# Altium footprint library MZ7XBFUN20171130.PcbLib: 50 footprints (part 2 of 4)
Each footprint in its own frame and in the unit in brackets; x right, y up, seen from the top. Pads: shape width x height; smd on the part's side, far side on the other; paste and mask are expansions set on the pad; w line width, h text height; cw(c..) or ccw(c..) is an arc to the next point about the centre after c.
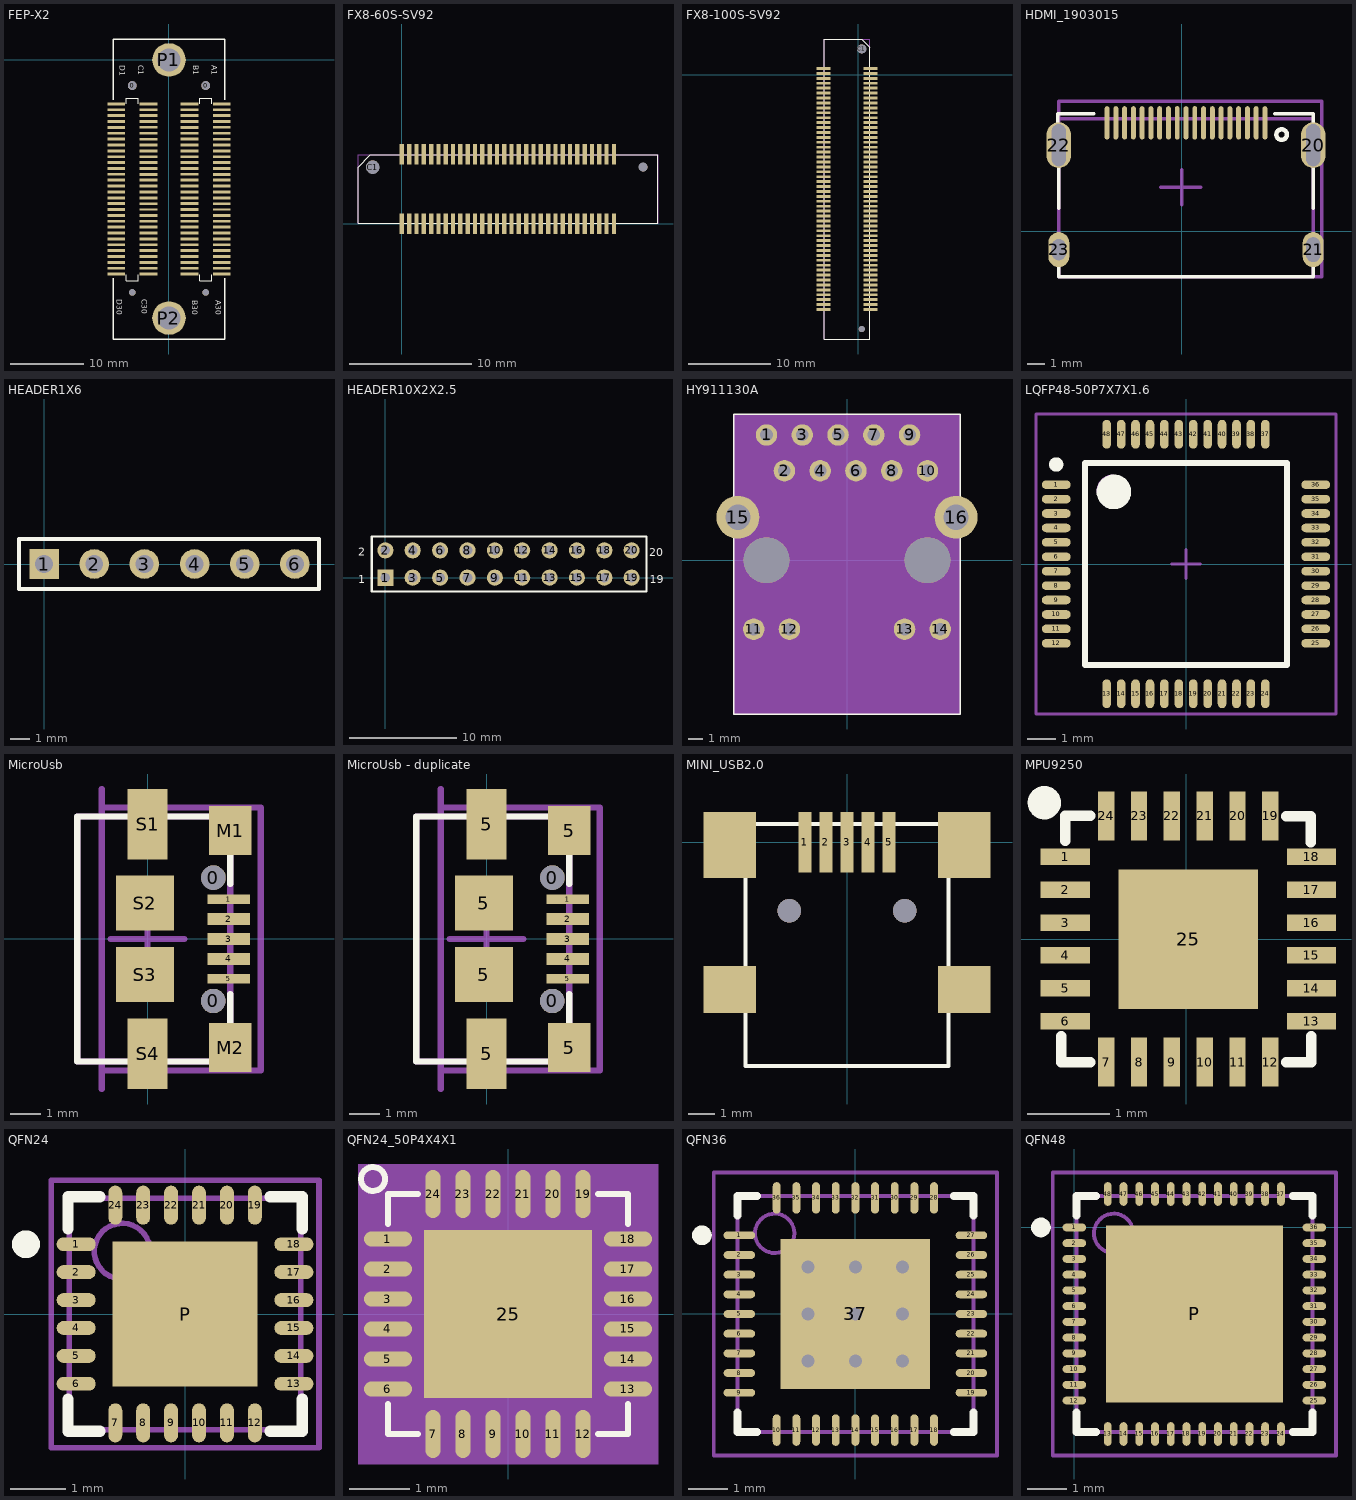
[diagram p1: the footprints below, top view; thin cyan lines are the x and y axes]

## FEP-X2 [mm]
pads (126):
  round 0.889 hole 0.889: 0(-5,-31.7) 0(5,-31.7)
  round 1.2 hole 1.2: 0(-5,-3.5) 0(5,-3.5)
  rect 2.4x0.4 smd: A1(7.2,-6) A2(7.2,-6.8) A3(7.2,-7.6) A4(7.2,-8.4) A8(7.2,-11.6) A9(7.2,-12.4) A10(7.2,-13.2) A11(7.2,-14) A12(7.2,-14.8) A13(7.2,-15.6) A14(7.2,-16.4) A15(7.2,-17.2) A16(7.2,-18) A17(7.2,-18.8) A20(7.2,-21.2) A21(7.2,-22) A22(7.2,-22.8) A23(7.2,-23.6) A24(7.2,-24.4) A25(7.2,-25.2) A26(7.2,-26) A27(7.2,-26.8) A28(7.2,-27.6) A29(7.2,-28.4) A30(7.2,-29.2) B1(2.8,-6) B2(2.8,-6.8) B3(2.8,-7.6) B4(2.8,-8.4) B5(2.8,-9.2) B6(2.8,-10) B7(2.8,-10.8) B8(2.8,-11.6) B9(2.8,-12.4) B10(2.8,-13.2) B11(2.8,-14) B12(2.8,-14.8) B14(2.8,-16.4) B15(2.8,-17.2) B16(2.8,-18) B17(2.8,-18.8) B18(2.8,-19.6) B19(2.8,-20.4) B20(2.8,-21.2) B21(2.8,-22) B22(2.8,-22.8) B23(2.8,-23.6) B24(2.8,-24.4) B25(2.8,-25.2) B26(2.8,-26) B27(2.8,-26.8) B28(2.8,-27.6) B29(2.8,-28.4) B30(2.8,-29.2) C1(-2.8,-6) C2(-2.8,-6.8) C3(-2.8,-7.6) C4(-2.8,-8.4) C8(-2.8,-11.6) C9(-2.8,-12.4) C10(-2.8,-13.2) C11(-2.8,-14) C12(-2.8,-14.8) C13(-2.8,-15.6) C14(-2.8,-16.4) C15(-2.8,-17.2) C16(-2.8,-18) C17(-2.8,-18.8) C20(-2.8,-21.2) C21(-2.8,-22) C22(-2.8,-22.8) C23(-2.8,-23.6) C24(-2.8,-24.4) C25(-2.8,-25.2) C26(-2.8,-26) C27(-2.8,-26.8) C28(-2.8,-27.6) C29(-2.8,-28.4) C30(-2.8,-29.2) D1(-7.2,-6) D2(-7.2,-6.8) D3(-7.2,-7.6) D4(-7.2,-8.4) D5(-7.2,-9.2) D6(-7.2,-10) D7(-7.2,-10.8) D8(-7.2,-11.6) D9(-7.2,-12.4) D10(-7.2,-13.2) D11(-7.2,-14) D12(-7.2,-14.8) D14(-7.2,-16.4) D15(-7.2,-17.2) D16(-7.2,-18) D17(-7.2,-18.8) D18(-7.2,-19.6) D19(-7.2,-20.4) D20(-7.2,-21.2) D21(-7.2,-22) D22(-7.2,-22.8) D23(-7.2,-23.6) D24(-7.2,-24.4) D25(-7.2,-25.2) D26(-7.2,-26) D27(-7.2,-26.8) D28(-7.2,-27.6) D29(-7.2,-28.4) D30(-7.2,-29.2)
  rect 2.4x0.33 smd: A5(7.2,-9.2) A6(7.2,-10) A7(7.2,-10.8) A18(7.2,-19.6) A19(7.2,-20.4) B13(2.8,-15.6) C5(-2.8,-9.2) C6(-2.8,-10) C7(-2.8,-10.8) C18(-2.8,-19.6) C19(-2.8,-20.4) D13(-7.2,-15.6)
  round 4.57 hole 3.1: P1(0,0) P2(0,-35.2)
Top Overlay:
  lines w0.152: -5.8,-29.3 -5.8,-30.1 -4.2,-30.1 ; -5.8,-6 -5.8,-5.2 -4.2,-5.2 -4.2,-6 ; 4.2,-6 4.2,-5.2 5.8,-5.2 5.8,-6 ; 5.8,-29.3 5.8,-30.1 4.2,-30.1 ; -4.2,-30.1 -4.2,-29.3 -4.2,-30.1 ; 4.2,-30.1 4.2,-29.3 4.2,-30.1
  lines w0.203: -7.62,-29.795 -7.62,-38.05 7.62,-38.05 7.62,-29.795 ; -7.62,-5.405 -7.62,2.85 7.62,2.85 7.62,-5.405
  text "B1" at 3.302,-0.762 h0.76
  text "A1" at 5.842,-0.762 h0.76
  text "B30" at 3.175,-32.766 h0.76
  text "A30" at 6.35,-32.766 h0.76
  text "D1" at -6.731,-0.762 h0.76
  text "C1" at -4.191,-0.762 h0.76
  text "D30" at -7.112,-32.639 h0.76
  text "C30" at -3.683,-32.639 h0.76

## FX8-60S-SV92 [mm]
pads (62):
  rect 0.35x1.7 smd: A1(0,0) A2(0.6,0) A3(1.2,0) A4(1.8,0) A5(2.4,0) A6(3,0) A7(3.6,0) A8(4.2,0) A9(4.8,0) A10(5.4,0) A11(6,0) A12(6.6,0) A13(7.2,0) A14(7.8,0) A15(8.4,0) A16(9,0) A17(9.6,0) A18(10.2,0) A19(10.8,0) A20(11.4,0) A21(12,0) A22(12.6,0) A23(13.2,0) A24(13.8,0) A25(14.4,0) A26(15,0) A27(15.6,0) A28(16.2,0) A29(16.8,0) A30(17.4,0) B1(0,5.7) B2(0.6,5.7) B3(1.2,5.7) B4(1.8,5.7) B5(2.4,5.7) B6(3,5.7) B7(3.6,5.7) B8(4.2,5.7) B9(4.8,5.7) B10(5.4,5.7) B11(6,5.7) B12(6.6,5.7) B13(7.2,5.7) B14(7.8,5.7) B15(8.4,5.7) B16(9,5.7) B17(9.6,5.7) B18(10.2,5.7) B19(10.8,5.7) B20(11.4,5.7) B21(12,5.7) B22(12.6,5.7) B23(13.2,5.7) B24(13.8,5.7) B25(14.4,5.7) B26(15,5.7) B27(15.6,5.7) B28(16.2,5.7) B29(16.8,5.7) B30(17.4,5.7)
  round 1.092 hole 1.1: C1(-2.4,4.65)
  round 0.711 hole 0.75: C2(19.8,4.65)
Top Overlay:
  lines w0.1: 21,0.05 -3.6,0.05 -3.6,4.65 -2.6,5.65 21,5.65 ; 21.009,0.05 21.009,5.65
Mechanical 7:
  lines w0.025: -3.6,0.05 21.016,0.05 21.016,5.65 -3.6,5.65 -3.6,0.05
3D body: height 3.81, standoff 0, extent -3.663,-0.866 21,6.634

## FX8-100S-SV92 [mm]
pads (102):
  rect 1.7x0.35 smd: A1(-4.221,0.782) A2(-4.221,0.182) A3(-4.221,-0.418) A4(-4.221,-1.018) A5(-4.221,-1.618) A6(-4.221,-2.218) A7(-4.221,-2.818) A8(-4.221,-3.418) A9(-4.221,-4.018) A10(-4.221,-4.618) A11(-4.221,-5.218) A12(-4.221,-5.818) A13(-4.221,-6.418) A14(-4.221,-7.018) A15(-4.221,-7.618) A16(-4.221,-8.218) A17(-4.221,-8.818) A18(-4.221,-9.418) A19(-4.221,-10.018) A20(-4.221,-10.618) A21(-4.221,-11.218) A22(-4.221,-11.818) A23(-4.221,-12.418) A24(-4.221,-13.018) A25(-4.221,-13.618) A26(-4.221,-14.218) A27(-4.221,-14.818) A28(-4.221,-15.418) A29(-4.221,-16.018) A30(-4.221,-16.618) A31(-4.221,-17.218) A32(-4.221,-17.818) A33(-4.221,-18.418) A34(-4.221,-19.018) A35(-4.221,-19.618) A36(-4.221,-20.218) A37(-4.221,-20.818) A38(-4.221,-21.418) A39(-4.221,-22.018) A40(-4.221,-22.618) A41(-4.221,-23.218) A42(-4.221,-23.818) A43(-4.221,-24.418) A44(-4.221,-25.018) A45(-4.221,-25.618) A46(-4.221,-26.218) A47(-4.221,-26.818) A48(-4.221,-27.418) A49(-4.221,-28.018) A50(-4.221,-28.618) B1(1.479,0.782) B2(1.479,0.182) B3(1.479,-0.418) B4(1.479,-1.018) B5(1.479,-1.618) B6(1.479,-2.218) B7(1.479,-2.818) B8(1.479,-3.418) B9(1.479,-4.018) B10(1.479,-4.618) B11(1.479,-5.218) B12(1.479,-5.818) B13(1.479,-6.418) B14(1.479,-7.018) B15(1.479,-7.618) B16(1.479,-8.218) B17(1.479,-8.818) B18(1.479,-9.418) B19(1.479,-10.018) B20(1.479,-10.618) B21(1.479,-11.218) B22(1.479,-11.818) B23(1.479,-12.418) B24(1.479,-13.018) B25(1.479,-13.618) B26(1.479,-14.218) B27(1.479,-14.818) B28(1.479,-15.418) B29(1.479,-16.018) B30(1.479,-16.618) B31(1.479,-17.218) B32(1.479,-17.818) B33(1.479,-18.418) B34(1.479,-19.018) B35(1.479,-19.618) B36(1.479,-20.218) B37(1.479,-20.818) B38(1.479,-21.418) B39(1.479,-22.018) B40(1.479,-22.618) B41(1.479,-23.218) B42(1.479,-23.818) B43(1.479,-24.418) B44(1.479,-25.018) B45(1.479,-25.618) B46(1.479,-26.218) B47(1.479,-26.818) B48(1.479,-27.418) B49(1.479,-28.018) B50(1.479,-28.618)
  round 1.092 hole 1.1: C1(0.429,3.182)
  round 0.711 hole 0.75: C2(0.429,-31.018)
Top Overlay:
  lines w0.1: -4.171,-32.218 1.429,-32.218 1.429,3.382 0.429,4.382 -4.171,4.382 -4.171,-32.218
Mechanical 6:
  text "C1" at -0.091,3.182 h0.76
Mechanical 7:
  lines w0.025: -4.171,-32.218 1.429,-32.218 1.429,4.382 -4.171,4.382 -4.171,-32.218
3D body: height 3.81, standoff 0, extent -5.121,-32.318 2.379,4.482

## HDMI_1903015 [mm]
pads (23):
  oval 0.279x1.9 smd: 1(4.75,6.17) 2(4.25,6.17) 3(3.75,6.17) 4(3.25,6.17) 5(2.75,6.17) 6(2.25,6.17) 7(1.75,6.17) 8(1.25,6.17) 9(0.75,6.17) 10(0.25,6.17) 11(-0.25,6.17) 12(-0.75,6.17) 13(-1.25,6.17) 14(-1.75,6.17) 15(-2.25,6.17) 16(-2.75,6.17) 17(-3.25,6.17) 18(-3.75,6.17) 19(-4.25,6.17)
  oval 1.4x2.6 hole 0.8 slot 2.4 at 90 deg: 20(7.5,4.9) 22(-7,4.9)
  oval 1.2x2 hole 0.8 slot 1.4 at 90 deg: 21(7.5,-1.06)
  oval 1.2x2 hole 0.8 slot 1.2 at 90 deg: 23(-7,-1.06)
Top Overlay:
  circle w0.254: c5.7,5.5 r0.3
  lines w0.2: -7.065,6.7 -5,6.7 ; -5,6.7 -5,6.7
  lines w0.203: -7.065,6.1 -7.065,6.7 ; -7.014,-1.4 -7.014,-2.6 7.5,-2.6 7.5,-1.4 ; -7.014,1.303 -7.014,4.203 ; 5.3,6.7 7.5,6.7 7.5,6.1 ; 7.5,1.3 7.5,4.2
Mechanical 13:
  lines w0.203: -7.014,-2.6 -7.014,6.4 7.5,6.4 7.5,-2.6 -7.014,-2.6
Mechanical 15:
  lines w0.203: -1.2,2.5 1.1,2.5 ; 0,1.5 0,3.5 ; -7.014,-2.6 -7.014,7.4 8,7.4 8,-2.6 -7.014,-2.6
3D body: height 7, standoff 0.1, extent -7.014,-2.6 7.5,6.4

## HEADER1X6 [mm]
pads (6):
  rect 1.5x1.5 hole 0.9: 1(0,0)
  round 1.5 hole 0.9: 2(2.54,0) 3(5.08,0) 4(7.62,0) 5(10.16,0) 6(12.7,0)
Top Overlay:
  lines w0.2: -1.27,-1.27 13.919,-1.27 13.919,1.27 -1.27,1.27 -1.27,-1.27

## HEADER10X2X2.5 [mm]
pads (20):
  rect 1.5x1.5 hole 0.9: 1(0,0)
  round 1.5 hole 0.9: 2(0,2.54) 3(2.54,0) 4(2.54,2.54) 5(5.08,0) 6(5.08,2.54) 7(7.62,0) 8(7.62,2.54) 9(10.16,0) 10(10.16,2.54) 11(12.7,0) 12(12.7,2.54) 13(15.24,0) 14(15.24,2.54) 15(17.78,0) 16(17.78,2.54) 17(20.32,0) 18(20.32,2.54) 19(22.86,0) 20(22.86,2.54)
Top Overlay:
  lines w0.2: -1.27,-1.27 24.25,-1.27 24.25,3.81 -1.27,3.81 -1.27,-1.27
  text "1" at -2.54,-0.508 h0.76
  text "2" at -2.54,2.032 h0.76
  text "20" at 24.5,2 h0.76
  text "19" at 24.542,-0.508 h0.76

## HY911130A [mil]
pads (18):
  round 60 hole 35: 1(-225,350) 2(-175,250) 3(-125,350) 4(-75,250) 5(-25,350) 6(25,250) 7(75,350) 8(125,250) 9(175,350) 10(225,250) 11(-260.83,-192.91) 12(-160.83,-192.91) 13(160.83,-192.91) 14(260.83,-192.91)
  round 120 hole 70: 15(-304.92,120.08) 16(304.92,120.08)
  round 128 hole 128: " "(-225,0) " "(225,0)
Top Overlay:
  lines w3.94: -316.93,-429.92 -316.93,408.66 316.93,408.66 316.93,-429.92 -316.93,-429.92
Mechanical 6:
  text "11" at -260.83,-230.61 h30
  text "14" at 260.83,-230.61 h30
  text "1" at -225,324.9 h30
  text "15" at -304.92,82.38 h30
  text "12" at -160.83,-230.61 h30
  text "10" at 225,212.3 h30
  text "13" at 160.83,-230.61 h30
  text "16" at 304.92,82.38 h30
  text "2" at -175,224.9 h30
  text "3" at -125,324.9 h30
  text "4" at -75,224.9 h30
  text "7" at 75,324.9 h30
  text "5" at -25,324.9 h30
  text "6" at 25,224.9 h30
  text "8" at 125,224.9 h30
  text "9" at 175,324.9 h30
Mechanical 7:
  lines w1: -316.93,-429.92 -316.93,408.66 316.93,408.66 316.93,-429.92 -316.93,-429.92
Mechanical 8:
  region: -316.93,-429.92 316.93,-429.92 316.93,408.66 -316.93,408.66
  lines w3.94: -59.06,-59.06 0,0 ; 0,-192.91 0,0 ; 59.06,-59.06 0,0
3D body: height 150, standoff 0, extent -316.93,-429.92 316.93,408.66

## LQFP48-50P7X7X1.6 [mm]
pads (48):
  oval 1x0.3 smd: 1(-4.5,2.75) 2(-4.5,2.25) 3(-4.5,1.75) 4(-4.5,1.25) 5(-4.5,0.75) 6(-4.5,0.25) 7(-4.5,-0.25) 8(-4.5,-0.75) 9(-4.5,-1.25) 10(-4.5,-1.75) 11(-4.5,-2.25) 12(-4.5,-2.75) 25(4.5,-2.75) 26(4.5,-2.25) 27(4.5,-1.75) 28(4.5,-1.25) 29(4.5,-0.75) 30(4.5,-0.25) 31(4.5,0.25) 32(4.5,0.75) 33(4.5,1.25) 34(4.5,1.75) 35(4.5,2.25) 36(4.5,2.75)
  oval 0.3x1 smd: 13(-2.75,-4.5) 14(-2.25,-4.5) 15(-1.75,-4.5) 16(-1.25,-4.5) 17(-0.75,-4.5) 18(-0.25,-4.5) 19(0.25,-4.5) 20(0.75,-4.5) 21(1.25,-4.5) 22(1.75,-4.5) 23(2.25,-4.5) 24(2.75,-4.5) 37(2.75,4.5) 38(2.25,4.5) 39(1.75,4.5) 40(1.25,4.5) 41(0.75,4.5) 42(0.25,4.5) 43(-0.25,4.5) 44(-0.75,4.5) 45(-1.25,4.5) 46(-1.75,4.5) 47(-2.25,4.5) 48(-2.75,4.5)
Top Overlay:
  circle w0.6: c-2.5,2.5 r0.3
  circle w0.25: c-4.5,3.45 r0.125
  lines w0.2: -3.5,-3.5 3.5,-3.5 3.5,3.5 -3.5,3.5 -3.5,-3.5
Mechanical 13:
  circle w0.1: c-2.55,2.55 r0.5
  lines w0.1: -3.5,-3.5 3.5,-3.5 3.5,3.5 -3.5,3.5 -3.5,-3.5
Mechanical 15:
  lines w0.1: -0.5,0 0.5,0 ; 0,-0.5 0,0.5 ; -5.2,-5.2 5.2,-5.2 5.2,5.2 -5.2,5.2 -5.2,-5.2
3D body: height 1.6, standoff 0.1, extent -3.5,-3.5 3.5,3.5

## MicroUsb [mm]
pads (13):
  round 0.8 hole 0.8: 0(2.144,-2.032) 0(2.15,2)
  rect 1.4x0.305 smd: 1(2.647,1.293) 5(2.647,-1.307)
  rect 1.4x0.4 smd: 2(2.647,0.643) 3(2.647,-0.007) 4(2.647,-0.657)
  rect 1.4x1.6 smd: M1(2.697,3.531) M2(2.697,-3.556)
  rect 1.3x2.3 smd: S1(-0.003,3.743) S4(-0.003,-3.757)
  rect 1.9x1.8 smd: S2(-0.092,1.168) S3(-0.092,-1.168)
Top Overlay:
  lines w0.203: 2.697,-1.807 2.697,-4.007 -2.303,-4.007 -2.303,3.993 2.697,3.993 2.697,1.793
Mechanical 13:
  lines w0.203: -2.303,-4.007 2.697,-4.007 2.697,3.993 -2.303,3.993 -2.303,-4.007
Mechanical 15:
  lines w0.203: -1.503,-4.907 -1.503,-2.507 ; -1.503,2.493 -1.503,4.893 ; -1.203,-0.007 1.197,-0.007 ; -0.003,-1.207 -0.003,1.193 ; -1.503,-4.307 3.697,-4.307 3.697,-3.107 3.697,4.293 -1.503,4.293 -1.503,-4.307
3D body: height 2, standoff 0, extent -2.37,-3.743 2.63,4.257

## MicroUsb - duplicate [mm]
pads (13):
  round 0.8 hole 0.8: 0(2.144,-2.032) 0(2.15,2)
  rect 1.4x0.305 smd: 1(2.647,1.293) 5(2.647,-1.307)
  rect 1.4x0.4 smd: 2(2.647,0.643) 3(2.647,-0.007) 4(2.647,-0.657)
  rect 1.9x1.8 smd: 5(-0.092,-1.168) 5(-0.092,1.168)
  rect 1.3x2.3 smd: 5(-0.003,-3.757) 5(-0.003,3.743)
  rect 1.4x1.6 smd: 5(2.697,-3.556) 5(2.697,3.531)
Top Overlay:
  lines w0.203: 2.697,-1.807 2.697,-4.007 -2.303,-4.007 -2.303,3.993 2.697,3.993 2.697,1.793
Mechanical 13:
  lines w0.203: -2.303,-4.007 2.697,-4.007 2.697,3.993 -2.303,3.993 -2.303,-4.007
Mechanical 15:
  lines w0.203: -1.503,-4.907 -1.503,-2.507 ; -1.503,2.493 -1.503,4.893 ; -1.203,-0.007 1.197,-0.007 ; -0.003,-1.207 -0.003,1.193 ; -1.503,-4.307 3.697,-4.307 3.697,-3.107 3.697,4.293 -1.503,4.293 -1.503,-4.307
3D body: height 2, standoff 0, extent -2.37,-3.743 2.63,4.257

## MINI_USB2.0 [mm]
pads (9):
  rect 0.5x2.3 smd: 1(-1.6,0) 2(-0.8,0) 3(0,0) 4(0.8,0) 5(1.6,0)
  rect 2x1.789 smd: ""(-4.45,-5.6) ""(4.45,-5.6)
  rect 2x2.5 smd: ""(-4.45,-0.1) ""(4.45,-0.1)
via 2.2,-2.6 diameter 0.9 hole 0.9
via -2.2,-2.6 diameter 0.9 hole 0.9
Top Overlay:
  lines w0.15: -3.85,-8.5 -3.85,0.7 3.85,0.7 3.85,-8.5 -3.85,-8.5

## MPU9250 [mm]
pads (25):
  rect 0.6x0.2 smd: 1(-1.472,1) 2(-1.472,0.6) 3(-1.472,0.2) 4(-1.472,-0.2) 5(-1.472,-0.6) 6(-1.472,-1) 13(1.528,-1) 14(1.528,-0.6) 15(1.528,-0.2) 16(1.528,0.2) 17(1.528,0.6) 18(1.528,1)
  rect 0.2x0.6 smd: 7(-0.972,-1.5) 8(-0.572,-1.5) 9(-0.172,-1.5) 10(0.228,-1.5) 11(0.628,-1.5) 12(1.028,-1.5) 19(1.028,1.5) 20(0.628,1.5) 21(0.228,1.5) 22(-0.172,1.5) 23(-0.572,1.5) 24(-0.972,1.5)
  rect 1.7x1.7 smd: 25(0.026,-0.003)
Top Overlay:
  lines w0.127: -1.519,-1.184 -1.519,-1.5 -1.167,-1.5 ; -1.472,1.199 -1.472,1.5 -1.167,1.5 ; 1.22,-1.5 1.528,-1.5 1.528,-1.184 ; 1.22,1.495 1.521,1.495 ; 1.521,1.178 1.521,1.483
  lines w0.203: -1.625,1.656 cw(c-1.726,1.661) -1.625,1.661

## QFN24 [mm]
pads (25):
  oval 0.7x0.25 smd: 1(-1.95,1.25) 2(-1.95,0.75) 3(-1.95,0.25) 4(-1.95,-0.25) 5(-1.95,-0.75) 6(-1.95,-1.25) 13(1.95,-1.25) 14(1.95,-0.75) 15(1.95,-0.25) 16(1.95,0.25) 17(1.95,0.75) 18(1.95,1.25)
  oval 0.25x0.7 smd: 7(-1.25,-1.95) 8(-0.75,-1.95) 9(-0.25,-1.95) 10(0.25,-1.95) 11(0.75,-1.95) 12(1.25,-1.95) 19(1.25,1.95) 20(0.75,1.95) 21(0.25,1.95) 22(-0.25,1.95) 23(-0.75,1.95) 24(-1.25,1.95)
  rect 2.6x2.6 smd: P(0,0)
Top Overlay:
  circle w0.25: c-2.85,1.25 r0.125
  lines w0.2: -2.1,-1.525 -2.1,-2.1 -1.525,-2.1 ; -2.1,1.525 -2.1,2.1 -1.525,2.1 ; 1.525,-2.1 2.1,-2.1 2.1,-1.525 ; 1.525,2.1 2.1,2.1 2.1,1.525
Mechanical 13:
  circle w0.1: c-1.125,1.125 r0.5
  lines w0.1: -2.075,-2.075 -2.075,2.075 2.075,2.075 2.075,-2.075 -2.075,-2.075
Mechanical 15:
  lines w0.1: -0.5,0 0.5,0 ; 0,-0.5 0,0.5 ; -2.4,-2.4 -2.4,2.4 2.4,2.4 2.4,-2.4 -2.4,-2.4
3D body: height 0.8, standoff 0.05, extent -2.075,-2.075 2.075,2.075

## QFN24_50P4X4X1 [mm] "QFN24_50P4X4X1"
pads (25):
  oval 0.8x0.25 smd: 1(-2,1.25) 2(-2,0.75) 3(-2,0.25) 4(-2,-0.25) 5(-2,-0.75) 6(-2,-1.25) 13(2,-1.25) 14(2,-0.75) 15(2,-0.25) 16(2,0.25) 17(2,0.75) 18(2,1.25)
  oval 0.25x0.8 smd: 7(-1.25,-2) 8(-0.75,-2) 9(-0.25,-2) 10(0.25,-2) 11(0.75,-2) 12(1.25,-2) 19(1.25,2) 20(0.75,2) 21(0.25,2) 22(-0.25,2) 23(-0.75,2) 24(-1.25,2)
  rect 2.8x2.8 smd: 25(0,0)
Top Overlay:
  circle w0.1: c-2.25,2.25 r0.2
  lines w0.1: -2,-1.5 -2,-2 -1.5,-2 ; -2,1.5 -2,2 -1.5,2 ; 1.5,-2 2,-2 2,-1.5 ; 1.5,2 2,2 2,1.5
Top Paste:
  pour cut-out: -0.15,0.15 -0.15,1.35 -1.35,1.35 -1.35,0.15
  pour cut-out: 1.35,0.15 1.35,1.35 0.15,1.35 0.15,0.15
  pour cut-out: 1.35,-1.35 1.35,-0.15 0.15,-0.15 0.15,-1.35
  pour cut-out: -0.15,-1.35 -0.15,-0.15 -1.35,-0.15 -1.35,-1.35
Mechanical 7:
  lines w0.025: -2,-2 2,-2 2,2 -2,2 -2,-2
Mechanical 8:
  region: -2.5,-2.5 2.5,-2.5 2.5,2.5 -2.5,2.5
3D body: height 3.81, standoff 0, extent -2.5,-2.5 2.5,2.5

## QFN36 [mm]
pads (37):
  oval 0.8x0.2 smd: 1(-2.95,2) 2(-2.95,1.5) 3(-2.95,1) 4(-2.95,0.5) 5(-2.95,0) 6(-2.95,-0.5) 7(-2.95,-1) 8(-2.95,-1.5) 9(-2.95,-2) 19(2.95,-2) 20(2.95,-1.5) 21(2.95,-1) 22(2.95,-0.5) 23(2.95,0) 24(2.95,0.5) 25(2.95,1) 26(2.95,1.5) 27(2.95,2)
  oval 0.2x0.8 smd: 10(-2,-2.95) 11(-1.5,-2.95) 12(-1,-2.95) 13(-0.5,-2.95) 14(0,-2.95) 15(0.5,-2.95) 16(1,-2.95) 17(1.5,-2.95) 18(2,-2.95) 28(2,2.95) 29(1.5,2.95) 30(1,2.95) 31(0.5,2.95) 32(0,2.95) 33(-0.5,2.95) 34(-1,2.95) 35(-1.5,2.95) 36(-2,2.95)
  rect 3.8x3.8 smd: 37(0,0)
via 1.2,-1.2 diameter 0.66 hole 0.33
via 0,-1.2 diameter 0.66 hole 0.33
via -1.2,-1.2 diameter 0.66 hole 0.33
via 1.2,0 diameter 0.66 hole 0.33
via 0,0 diameter 0.66 hole 0.33
via -1.2,0 diameter 0.66 hole 0.33
via 1.2,1.2 diameter 0.66 hole 0.33
via 0,1.2 diameter 0.66 hole 0.33
via -1.2,1.2 diameter 0.66 hole 0.33
Top Overlay:
  circle w0.25: c-3.9,2 r0.125
  lines w0.2: -3,-2.5 -3,-3 -2.5,-3 ; -3,2.5 -3,3 -2.5,3 ; 2.5,-3 3,-3 3,-2.5 ; 2.5,3 3,3 3,2.5
Mechanical 13:
  circle w0.1: c-2.05,2.05 r0.5
  lines w0.1: -3,-3 3,-3 3,3 -3,3 -3,-3
Mechanical 15:
  lines w0.1: -0.5,0 0.5,0 ; 0,-0.5 0,0.5 ; -3.6,-3.6 3.6,-3.6 3.6,3.6 -3.6,3.6 -3.6,-3.6
3D body: height 0.8, standoff 0.01, extent -3,-3 3,3

## QFN48 [mm]
pads (49):
  oval 0.6x0.2 smd: 1(0,0) 2(0,-0.4) 3(0,-0.8) 4(0,-1.2) 5(0,-1.6) 6(0,-2) 7(0,-2.4) 8(0,-2.8) 9(0,-3.2) 10(0,-3.6) 11(0,-4) 12(0,-4.4) 25(6.1,-4.4) 26(6.1,-4) 27(6.1,-3.6) 28(6.1,-3.2) 29(6.1,-2.8) 30(6.1,-2.4) 31(6.1,-2) 32(6.1,-1.6) 33(6.1,-1.2) 34(6.1,-0.8) 35(6.1,-0.4) 36(6.1,0)
  oval 0.2x0.6 smd: 13(0.85,-5.25) 14(1.25,-5.25) 15(1.65,-5.25) 16(2.05,-5.25) 17(2.45,-5.25) 18(2.85,-5.25) 19(3.25,-5.25) 20(3.65,-5.25) 21(4.05,-5.25) 22(4.45,-5.25) 23(4.85,-5.25) 24(5.25,-5.25) 37(5.25,0.85) 38(4.85,0.85) 39(4.45,0.85) 40(4.05,0.85) 41(3.65,0.85) 42(3.25,0.85) 43(2.85,0.85) 44(2.45,0.85) 45(2.05,0.85) 46(1.65,0.85) 47(1.25,0.85) 48(0.85,0.85)
  rect 4.5x4.5 smd: P(3.05,-2.2)
Top Overlay:
  circle w0.25: c-0.85,0 r0.125
  lines w0.2: 0.05,-4.7 0.05,-5.2 0.55,-5.2 ; 0.05,0.3 0.05,0.8 0.55,0.8 ; 5.55,-5.2 6.05,-5.2 6.05,-4.7 ; 5.55,0.8 6.05,0.8 6.05,0.3
Mechanical 13:
  circle w0.1: c1,-0.15 r0.5
  lines w0.1: 0.05,-5.2 6.05,-5.2 6.05,0.8 0.05,0.8 0.05,-5.2
Mechanical 15:
  lines w0.1: 2.55,-2.2 3.55,-2.2 ; 3.05,-2.7 3.05,-1.7 ; -0.55,-5.8 6.65,-5.8 6.65,1.4 -0.55,1.4 -0.55,-5.8
3D body: height 0.8, standoff 0.01, extent 0.05,-5.2 6.05,0.8